# EAGLE library part BEAGLEBONE (library eagleParts)
Beaglebone P8 & P9
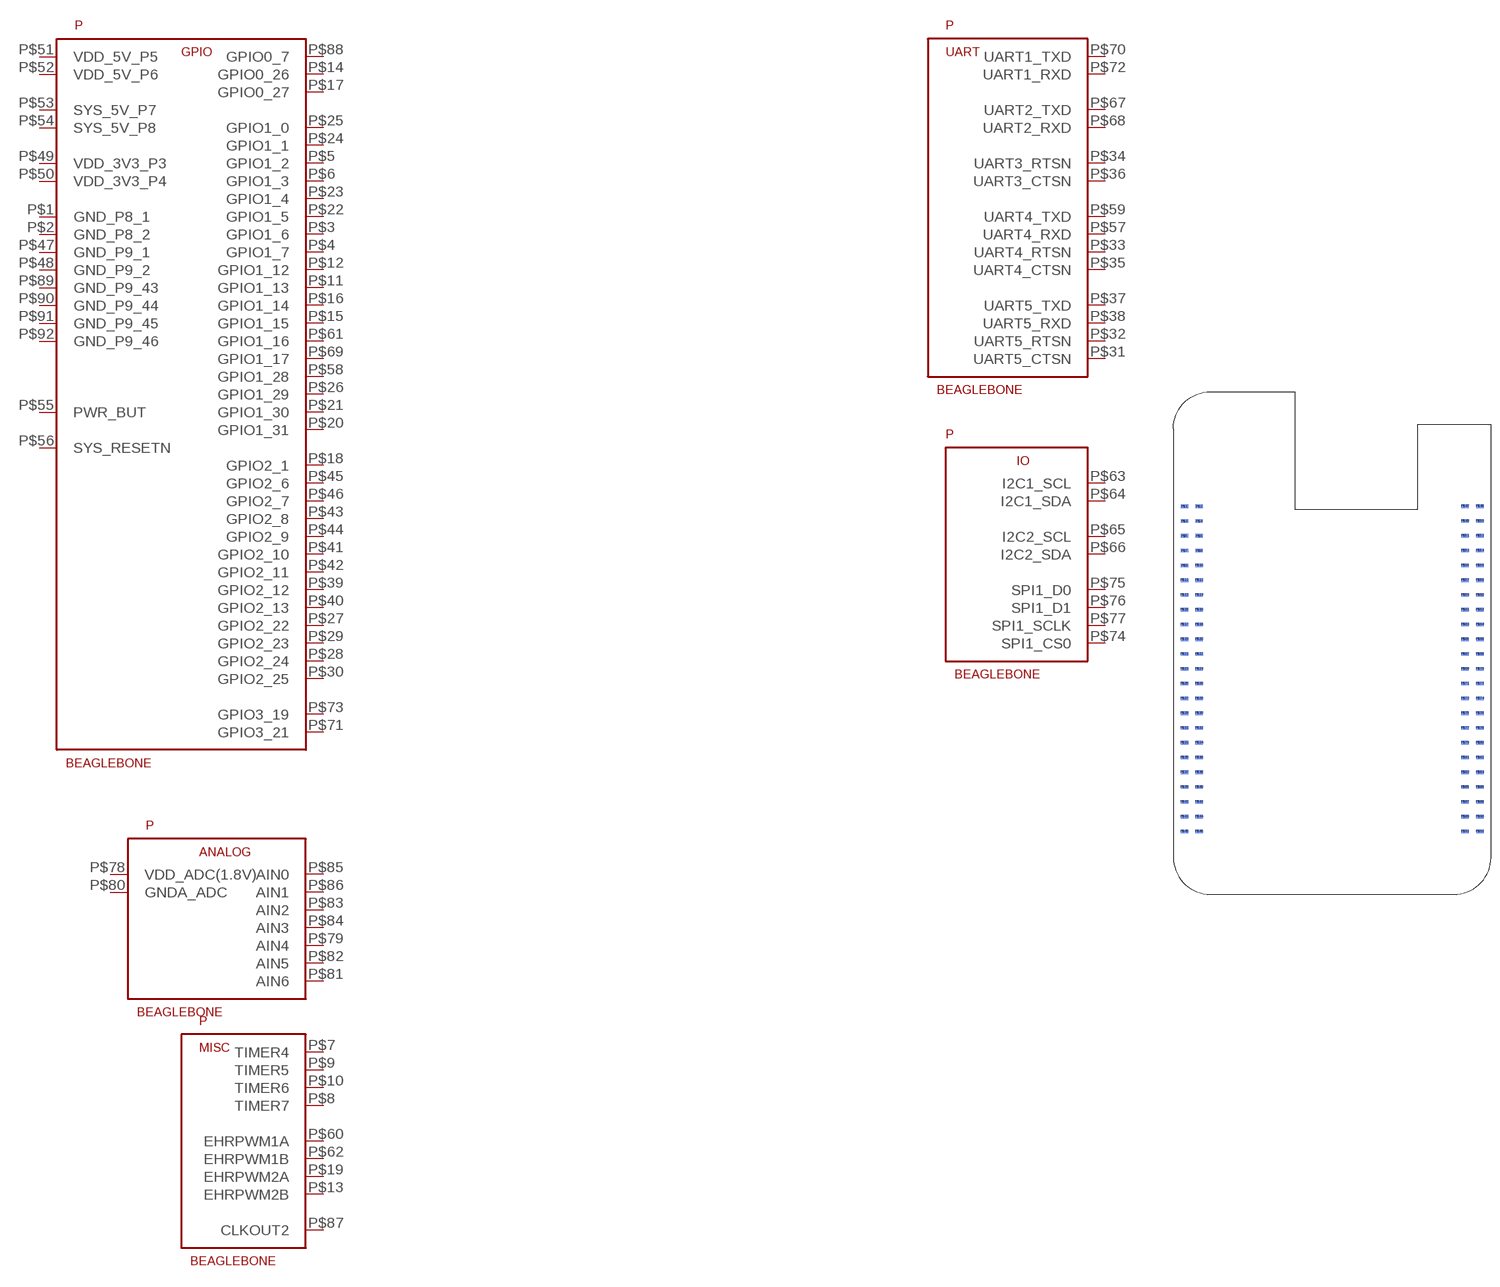
[diagram p12: symbol with the pads of BEAGLEBONE; footprint BEAGLEBONE]

Designator prefix P

## BEAGLEBONE  [BEAGLEBONE]
P$1  GND_P8_1
P$2  GND_P8_2
P$3  GPIO1_6
P$4  GPIO1_7
P$5  GPIO1_2
P$6  GPIO1_3
P$7  TIMER4
P$8  TIMER7
P$9  TIMER5
P$10  TIMER6
P$11  GPIO1_13
P$12  GPIO1_12
P$13  EHRPWM2B
P$14  GPIO0_26
P$15  GPIO1_15
P$16  GPIO1_14
P$17  GPIO0_27
P$18  GPIO2_1
P$19  EHRPWM2A
P$20  GPIO1_31
P$21  GPIO1_30
P$22  GPIO1_5
P$23  GPIO1_4
P$24  GPIO1_1
P$25  GPIO1_0
P$26  GPIO1_29
P$27  GPIO2_22
P$28  GPIO2_24
P$29  GPIO2_23
P$30  GPIO2_25
P$31  UART5_CTSN
P$32  UART5_RTSN
P$33  UART4_RTSN
P$34  UART3_RTSN
P$35  UART4_CTSN
P$36  UART3_CTSN
P$37  UART5_TXD
P$38  UART5_RXD
P$39  GPIO2_12
P$40  GPIO2_13
P$41  GPIO2_10
P$42  GPIO2_11
P$43  GPIO2_8
P$44  GPIO2_9
P$45  GPIO2_6
P$46  GPIO2_7
P$47  GND_P9_1
P$48  GND_P9_2
P$49  VDD_3V3_P3
P$50  VDD_3V3_P4
P$51  VDD_5V_P5
P$52  VDD_5V_P6
P$53  SYS_5V_P7
P$54  SYS_5V_P8
P$55  PWR_BUT
P$56  SYS_RESETN
P$57  UART4_RXD
P$58  GPIO1_28
P$59  UART4_TXD
P$60  EHRPWM1A
P$61  GPIO1_16
P$62  EHRPWM1B
P$63  I2C1_SCL
P$64  I2C1_SDA
P$65  I2C2_SCL
P$66  I2C2_SDA
P$67  UART2_TXD
P$68  UART2_RXD
P$69  GPIO1_17
P$70  UART1_TXD
P$71  GPIO3_21
P$72  UART1_RXD
P$73  GPIO3_19
P$74  SPI1_CS0
P$75  SPI1_D0
P$76  SPI1_D1
P$77  SPI1_SCLK
P$78  VDD_ADC(1.8V)
P$79  AIN4
P$80  GNDA_ADC
P$81  AIN6
P$82  AIN5
P$83  AIN2
P$84  AIN3
P$85  AIN0
P$86  AIN1
P$87  CLKOUT2
P$88  GPIO0_7
P$89  GND_P9_43
P$90  GND_P9_44
P$91  GND_P9_45
P$92  GND_P9_46

## Footprint BEAGLEBONE (pad centres in mm)
smd 1.27 x 0.635 bottom: P$1 -25.4,27.94; P$2 -22.86,27.94; P$3 -25.4,25.4; P$4 -22.86,25.4; P$5 -25.4,22.86; P$6 -22.86,22.86; P$7 -25.4,20.32; P$8 -22.86,20.32; P$9 -25.4,17.78; P$10 -22.86,17.78; P$11 -25.4,15.24; P$12 -22.86,15.24; P$13 -25.4,12.7; P$14 -22.86,12.7; P$15 -25.4,10.16; P$16 -22.86,10.16; P$17 -25.4,7.62; P$18 -22.86,7.62; P$19 -25.4,5.08; P$20 -22.86,5.08; P$21 -25.4,2.54; P$22 -22.86,2.54; P$23 -25.4,0; P$24 -22.86,0; P$25 -25.4,-2.54; P$26 -22.86,-2.54; P$27 -25.4,-5.08; P$28 -22.86,-5.08; P$29 -25.4,-7.62; P$30 -22.86,-7.62; P$31 -25.4,-10.16; P$32 -22.86,-10.16; P$33 -25.4,-12.7; P$34 -22.86,-12.7; P$35 -25.4,-15.24; P$36 -22.86,-15.24; P$37 -25.4,-17.78; P$38 -22.86,-17.78; P$39 -25.4,-20.32; P$40 -22.86,-20.32; P$41 -25.4,-22.86; P$42 -22.86,-22.86; P$43 -25.4,-25.4; P$44 -22.86,-25.4; P$45 -25.4,-27.94; P$46 -22.86,-27.94; P$47 22.86,27.94; P$48 25.4,27.94; P$49 22.86,25.4; P$50 25.4,25.4; P$51 22.86,22.86; P$52 25.4,22.86; P$53 22.86,20.32; P$54 25.4,20.32; P$55 22.86,17.78; P$56 25.4,17.78; P$57 22.86,15.24; P$58 25.4,15.24; P$59 22.86,12.7; P$60 25.4,12.7; P$61 22.86,10.16; P$62 25.4,10.16; P$63 22.86,7.62; P$64 25.4,7.62; P$65 22.86,5.08; P$66 25.4,5.08; P$67 22.86,2.54; P$68 25.4,2.54; P$69 22.86,0; P$70 25.4,0; P$71 22.86,-2.54; P$72 25.4,-2.54; P$73 22.86,-5.08; P$74 25.4,-5.08; P$75 22.86,-7.62; P$76 25.4,-7.62; P$77 22.86,-10.16; P$78 25.4,-10.16; P$79 22.86,-12.7; P$80 25.4,-12.7; P$81 22.86,-15.24; P$82 25.4,-15.24; P$83 22.86,-17.78; P$84 25.4,-17.78; P$85 22.86,-20.32; P$86 25.4,-20.32; P$87 22.86,-22.86; P$88 25.4,-22.86; P$89 22.86,-25.4; P$90 25.4,-25.4; P$91 22.86,-27.94; P$92 25.4,-27.94